# EAGLE library part 629004113921 (library SamacSys_Parts)
Wurth Elektronik Male 1 Port Right Angle SMT Version 2 Type A USB Connector, 30 V ac, 1.5A WR-COM 62900 Source: Datasheet <https://componentsearchengine.com/Datasheets/1/629004113921.pdf>
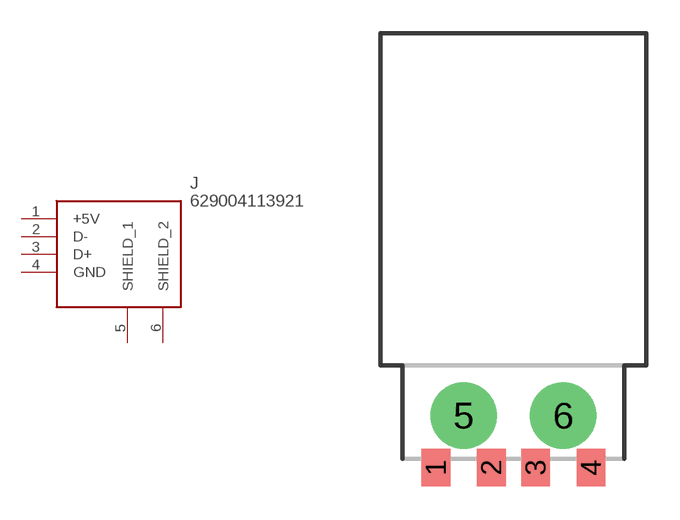
[diagram p1: symbol with the pads of 629004113921; footprint 629004113921]

Designator prefix J

## 629004113921 (DESCRIPTION: Wurth Elektronik Male 1 Port Right Angle SMT Version 2 Type A USB Connector, 30 V ac, 1.5A WR-COM 62900; HEIGHT: mm; MANUFACTURER_NAME: Wurth Elektronik; MANUFACTURER_PART_NUMBER: 629004113921; MOUSER_PART_NUMBER: 710-629004113921; MOUSER_PRICE-STOCK: https://www.mouser.com/Search/Refine.aspx?Keyword=710-629004113921)  [629004113921]
1  +5V
2  D-
3  D+
4  GND
5  SHIELD_1
6  SHIELD_2

## Footprint 629004113921 (pad centres in mm)
629004113921
smd 1.3 x 1.7: 1 -3.5,-19.6; 2 -1,-19.6; 3 1,-19.6; 4 3.5,-19.6
drill 2 pad 2.54: 5 -2.25,-17.25; 6 2.25,-17.25